# EAGLE library part MPU-9250 (library thanics_robotics)
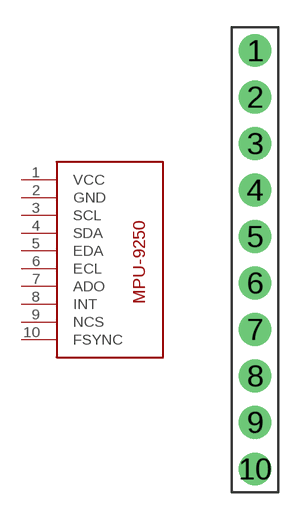
[diagram p2: symbol with the pads of MPU-9250; footprint MPU-9250]

Designator prefix -

## MPU-9250  [MPU-9250]
1  VCC  pwr
2  GND  pwr
3  SCL
4  SDA
5  EDA
6  ECL
7  ADO
8  INT
9  NCS
10  FSYNC

## Footprint MPU-9250 (pad centres in mm)
drill 1 pad 1.778: 1 0,10.16; 2 0,7.62; 3 0,5.08; 4 0,2.54; 5 0,0; 6 0,-2.54; 7 0,-5.08; 8 0,-7.62; 9 0,-10.16; 10 0,-12.7